# Altium footprint library PCB - CAPACITOR - CHIP - WCAP-ASLI_5x5.5.PCBLIB: 1 footprints
Each footprint in its own frame and in the unit in brackets; x right, y up, seen from the top. Pads: shape width x height; smd on the part's side, far side on the other; paste and mask are expansions set on the pad; w line width, h text height; cw(c..) or ccw(c..) is an arc to the next point about the centre after c.
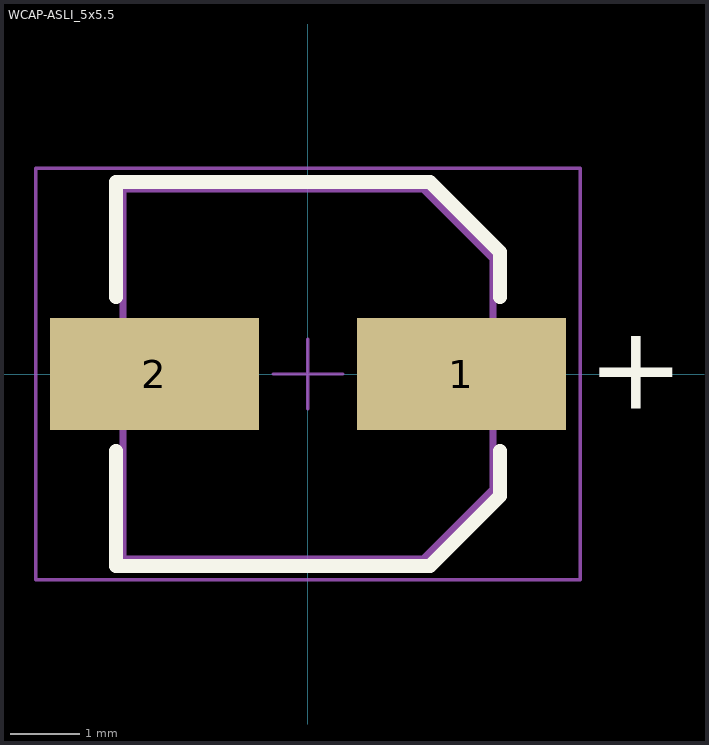
[diagram p0: the footprint, top view; thin cyan lines are the x and y axes]

## WCAP-ASLI_5x5.5 [mm] "Aluminium Electrolytic V-Chip SMT Capacitors, 5x5.5mm"
height 5.5
pads (2):
  rect 3x1.6 smd: 1(2.2,0) 2(-2.2,0)
Top Overlay:
  lines w0.2: -2.75,-1.1 -2.75,-2.75 1.75,-2.75 2.75,-1.75 2.75,-1.1 ; -2.75,1.1 -2.75,2.75 1.75,2.75 2.75,1.75 2.75,1.1
  text "+" at 4,-0.5 h1.22
Top Assembly:
  lines w0.1: -2.65,-2.65 1.65,-2.65 2.65,-1.65 2.65,1.65 1.65,2.65 -2.65,2.65 -2.65,-2.65
Top Courtyard:
  lines w0.05: -3.9,-2.95 -3.9,2.95 3.9,2.95 3.9,-2.95 -3.9,-2.95
Top Designator:
  text ".Designator" at -1.016,4.191 h1.02
Top Component Center:
  lines w0.05: -0.5,0 0.5,0 ; 0,-0.5 0,0.5
3D body "5x5.5x1.4.stp": height 5.5, standoff 0, extent -3,-2.65 3,2.65